# EAGLE library part NCM6D1212C (library RescueRunner)
Isolated DC/DC Converters 6W 9-36V 5.2kVDC 5V 1.2A Source: Datasheet <https://componentsearchengine.com/Datasheets/1/NCM6S1205C.pdf>
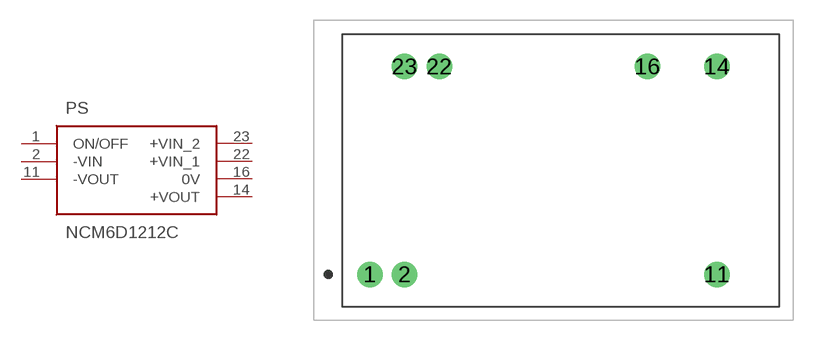
[diagram p17: symbol with the pads of NCM6D1212C; footprint NCM6D1212C]

Designator prefix PS

## NCM6D1212C  [NCM6D1212C]
1  ON/OFF
2  -VIN
11  -VOUT
14  +VOUT
16  0V
22  +VIN_1
23  +VIN_2

## Footprint NCM6D1212C (pad centres in mm)
NCM6S1205C-1
drill 1.25 pad 1.875: 1 0,0; 2 2.54,0; 11 25.4,0; 14 25.4,15.24; 16 20.32,15.24; 22 5.08,15.24; 23 2.54,15.24